# Altium footprint library NOKIA3310LCD-BOARD.PCBLIB: 1 footprints
Each footprint in its own frame and in the unit in brackets; x right, y up, seen from the top. Pads: shape width x height; smd on the part's side, far side on the other; paste and mask are expansions set on the pad; w line width, h text height; cw(c..) or ccw(c..) is an arc to the next point about the centre after c.
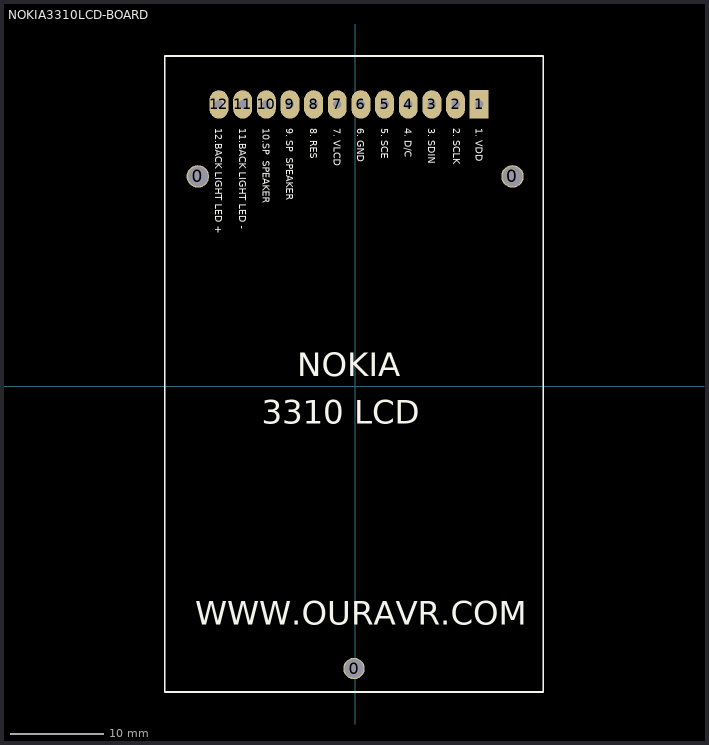
[diagram p0: the footprint, top view; thin cyan lines are the x and y axes]

## NOKIA3310LCD-BOARD [mil] "WWW,OURAVR.COM"
pads (15):
  round 95 hole 85: 0(-665,887.67) 0(665,887.67)
  round 90 hole 80: 0(-5,-1192.33)
  rect 80x120 hole 36: 1(524.26,1192.33)
  oval 80x120 hole 36: 2(424.26,1192.33) 3(324.26,1192.33) 4(224.26,1192.33) 5(124.26,1192.33) 6(24.26,1192.33) 7(-75.74,1192.33) 8(-175.74,1192.33) 9(-275.74,1192.33) 10(-375.74,1192.33) 11(-475.74,1192.33) 12(-575.74,1192.33)
Top Overlay:
  lines w8: -805,-1292.33 795,-1292.33 795,1397.67 -805,1397.67 -805,-1292.33
  text "WWW.OURAVR.COM" at -675.74,-1007.67 h100
  text "NOKIA" at -245.74,42.33 h100
  text "3310 LCD" at -395.74,-157.67 h100
  text "12.BACK LIGHT LED +" at -590.74,1092.33 h30
  text "11.BACK LIGHT LED -" at -490.74,1092.33 h30
  text "10.SP  SPEAKER" at -390.74,1092.33 h30
  text "9. SP  SPEAKER" at -290.74,1092.33 h30
  text "1. VDD" at 509.26,1092.33 h30
  text "2. SCLK" at 414.26,1092.33 h30
  text "4. D/C" at 209.26,1092.33 h30
  text "5. SCE" at 109.26,1092.33 h30
  text "6. GND" at 9.26,1092.33 h30
  text "3. SDIN" at 309.26,1092.33 h30
  text "7. VLCD" at -90.74,1092.33 h30
  text "8. RES" at -190.74,1092.33 h30
Top Paste:
  circle w35: c-6,745.87 r70
Top Solder:
  circle w40: c-6,745.87 r70